# Altium schematic symbol library CPF0603B1K0E1.SchLib: 1 symbol
Pins are listed as number, name and electrical type; pins without a type are passive.

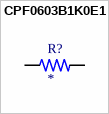
[diagram p0: symbol CPF0603B1K0E1]

## CPF0603B1K0E1
designator R?
Res Thin Film 0603 1K Ohm 0.1% 0.063W(1/16W) Â±25ppm/C Epoxy Pad SMD T/R; MF: TE Connectivity; Voltage_Rating: 50 V; Power_Rating: .063 W; Tolerance: .1%; MP: CPF0603B1K0E1; Package: 0603; Check_prices: https://www.snapeda.com/parts/CPF0603B1K0E1/TE+Connectivity+%252F+DEUTSCH/view-part/?ref=eda; Price: None; Value: *; EU_RoHS_Compliance: Compliant; Resistance: 1K; Purchase-URL: https://pricing.snapeda.com/search/part/CPF0603B1K0E1/?ref=eda; SnapEDA_Link: https://www.snapeda.com/parts/CPF0603B1K0E1/TE+Connectivity+%252F+DEUTSCH/view-part/?ref=snap; Availability: In Stock
footprint RESC1608X50N
pins: 1, 2